# Altium footprint library MaryLab Projets.PcbLib: 43 footprints (part 1 of 3)
Each footprint in its own frame and in the unit in brackets; x right, y up, seen from the top. Pads: shape width x height; smd on the part's side, far side on the other; paste and mask are expansions set on the pad; w line width, h text height; cw(c..) or ccw(c..) is an arc to the next point about the centre after c.
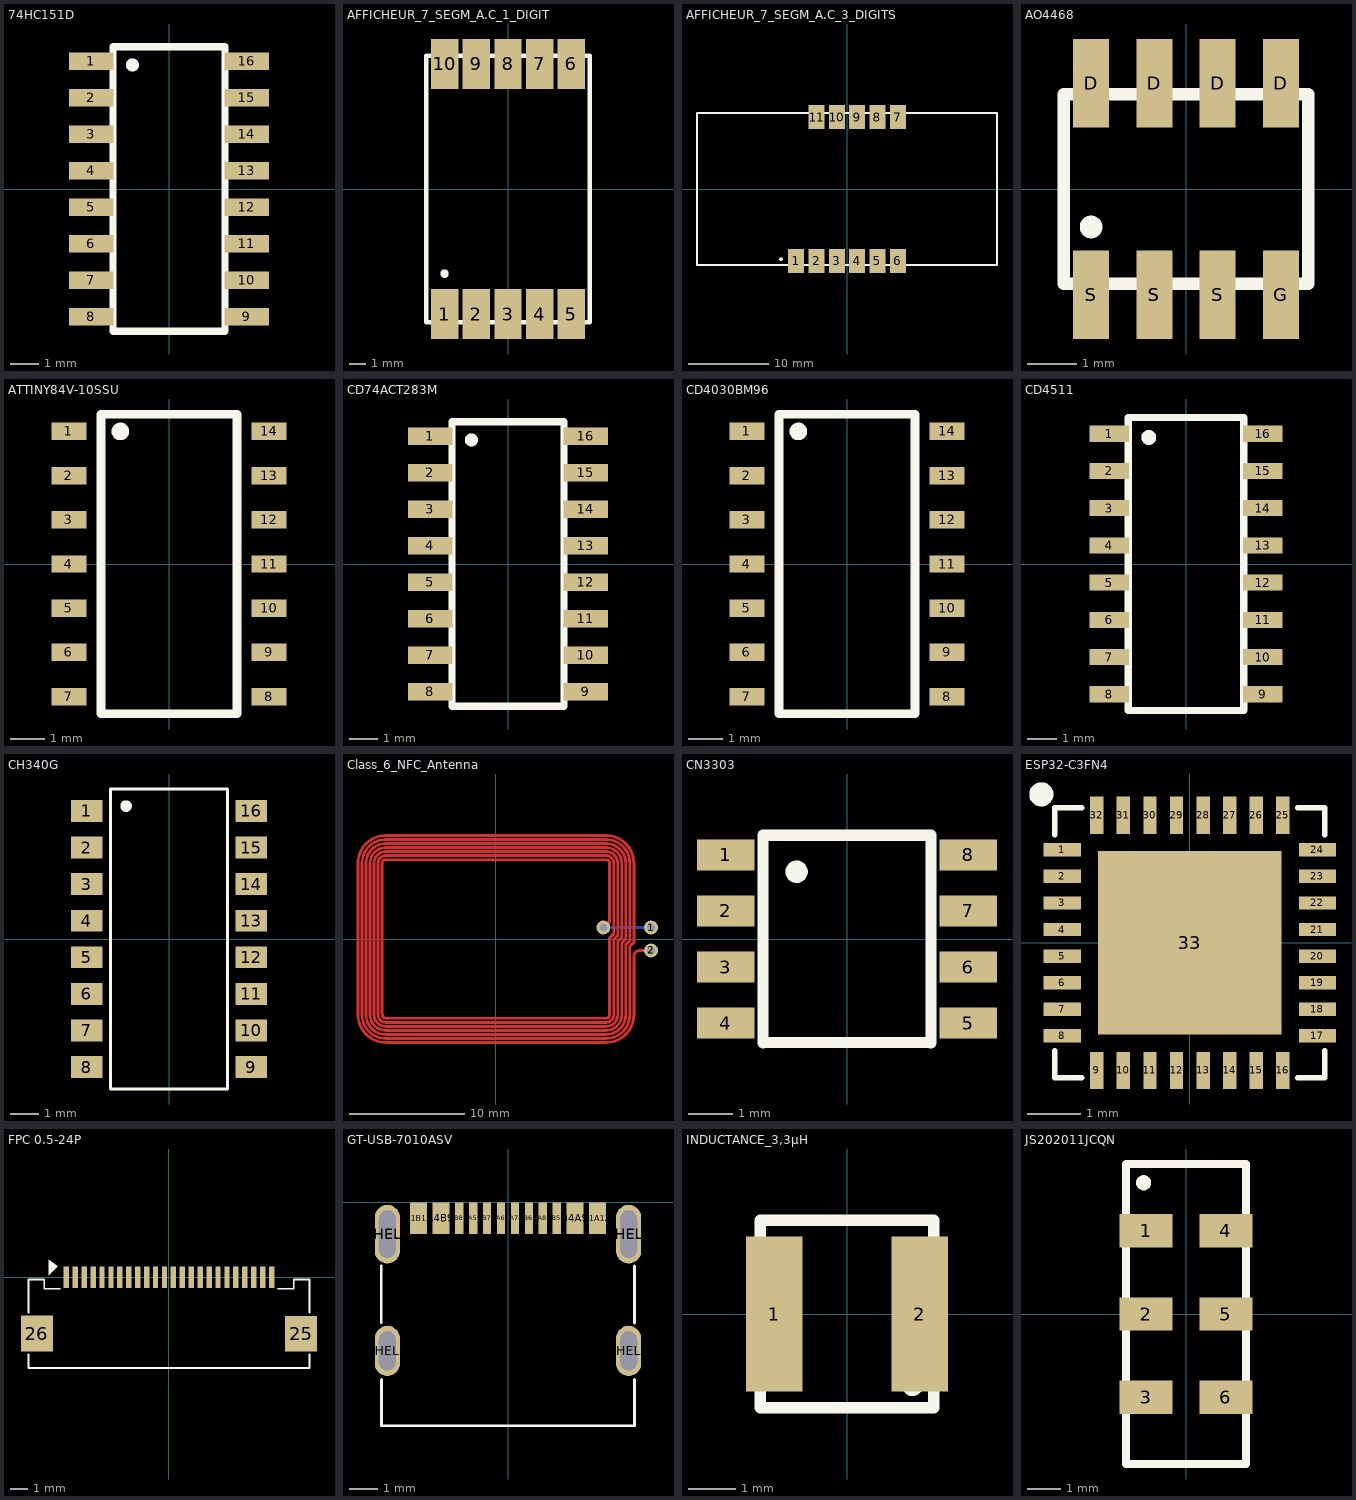
[diagram p0: the footprints below, top view; thin cyan lines are the x and y axes]

## 74HC151D [mm] "IC MULTIPLEXER 1 X 8:1"
pads (16):
  rect 1.55x0.6 smd: 1(-2.7,4.445) 2(-2.7,3.175) 3(-2.7,1.905) 4(-2.7,0.635) 5(-2.7,-0.635) 6(-2.7,-1.905) 7(-2.7,-3.175) 8(-2.7,-4.445) 9(2.7,-4.445) 10(2.7,-3.175) 11(2.7,-1.905) 12(2.7,-0.635) 13(2.7,0.635) 14(2.7,1.905) 15(2.7,3.175) 16(2.7,4.445)
Top Overlay:
  circle w0.254: c-1.27,4.318 r0.1
  lines w0.254: -1.95,-4.95 -1.95,4.95 1.95,4.95 1.95,-4.95 -1.95,-4.95
3D body "SO16 Narrow 3.9mm.step": height 1.35, standoff 0, extent -2.99,-4.95 2.99,4.95

## AFFICHEUR_7_SEGM_A.C_1_DIGIT [mm] "VDMR10A1 - DISPLAY 7SEG 0.39\" SGL RED 10SMD"
pads (10):
  rect 1.65x3 smd: 1(-3.8,-7.5) 2(-1.9,-7.5) 3(0,-7.5) 4(1.9,-7.5) 5(3.8,-7.5) 6(3.8,7.5) 7(1.9,7.5) 8(0,7.5) 9(-1.9,7.5) 10(-3.8,7.5)
Top Overlay:
  circle w0.254: c-3.81,-5.08 r0.127
  lines w0.254: -4.9,-8 -4.9,8 4.9,8 4.9,-8 -4.9,-8
3D body "SON_R10A1_VIS.step": height 2.11, standoff 0, extent -4.902,-8.128 4.902,7.874

## AFFICHEUR_7_SEGM_A.C_3_DIGITS [mm] "0.56” Three Digit SMD Display Common Anode - QBTS560R"
pads (11):
  rect 2x3 smd: 1(-6.35,-9) 2(-3.81,-9) 3(-1.27,-9) 4(1.27,-9) 5(3.81,-9) 6(6.35,-9) 7(6.35,9) 8(3.81,9) 9(1.27,9) 10(-1.27,9) 11(-3.81,9)
Top Overlay:
  circle w0.254: c-8.255,-8.763 r0.1
  lines w0.254: -18.75,-9.5 18.75,-9.5 18.75,9.5 -18.75,9.5 -18.75,-9.5

## AO4468 [mm] "30V N-Channel MOSFET"
pads (8):
  rect 0.72x1.78 smd: D(-1.905,2.12) D(-0.635,2.12) D(0.635,2.12) D(1.905,2.12) G(1.905,-2.12) S(-1.905,-2.12) S(-0.635,-2.12) S(0.635,-2.12)
Top Overlay:
  circle w0.254: c-1.905,-0.762 r0.1
  lines w0.254: -2.45,-1.9 2.45,-1.9 2.45,1.9 -2.45,1.9 -2.45,-1.9

## ATTINY84V-10SSU [mm] "AVR series Microcontrôleurs IC 8 bits 10MHz 8Ko (4K x 16) FLASH 14-SOIC"
pads (14):
  rect 1x0.5 smd: 1(-2.875,3.81) 2(-2.875,2.54) 3(-2.875,1.27) 4(-2.875,0) 5(-2.875,-1.27) 6(-2.875,-2.54) 7(-2.875,-3.81) 8(2.875,-3.81) 9(2.875,-2.54) 10(2.875,-1.27) 11(2.875,0) 12(2.875,1.27) 13(2.875,2.54) 14(2.875,3.81)
Top Overlay:
  circle w0.254: c-1.397,3.81 r0.127
  lines w0.254: -1.95,-4.305 1.95,-4.305 1.95,4.305 -1.95,4.305 -1.95,-4.305
3D body "SOIC-14_3.9x8.7mm_P1.27mm.step": height 1.75, standoff 0, extent -3,-4.35 3,4.35

## CD74ACT283M [mm] "4-Bit Binary Fill Adder With Fast Carry"
pads (16):
  rect 1.55x0.6 smd: 1(-2.7,4.445) 2(-2.7,3.175) 3(-2.7,1.905) 4(-2.7,0.635) 5(-2.7,-0.635) 6(-2.7,-1.905) 7(-2.7,-3.175) 8(-2.7,-4.445) 9(2.7,-4.445) 10(2.7,-3.175) 11(2.7,-1.905) 12(2.7,-0.635) 13(2.7,0.635) 14(2.7,1.905) 15(2.7,3.175) 16(2.7,4.445)
Top Overlay:
  circle w0.254: c-1.27,4.318 r0.1
  lines w0.254: -1.95,-4.95 -1.95,4.95 1.95,4.95 1.95,-4.95 -1.95,-4.95
3D body "SO16 Narrow 3.9mm.step": height 1.35, standoff 0, extent -2.99,-4.95 2.99,4.95

## CD4030BM96 [mm] "IC GATE XOR 4CH 2-INP 14SOIC"
pads (14):
  rect 1x0.5 smd: 1(-2.875,3.81) 2(-2.875,2.54) 3(-2.875,1.27) 4(-2.875,0) 5(-2.875,-1.27) 6(-2.875,-2.54) 7(-2.875,-3.81) 8(2.875,-3.81) 9(2.875,-2.54) 10(2.875,-1.27) 11(2.875,0) 12(2.875,1.27) 13(2.875,2.54) 14(2.875,3.81)
Top Overlay:
  circle w0.254: c-1.397,3.81 r0.127
  lines w0.254: -1.95,-4.305 -1.95,4.305 1.95,4.305 1.95,-4.305 -1.95,-4.305
3D body "SOIC-14_3.9x8.7mm_P1.27mm.step": height 1.75, standoff 0, extent -3,-4.35 3,4.35

## CD4511 [mm] "CMOS BCD to 7 Segment Latch Decoder Drivers"
pads (16):
  rect 1.35x0.55 smd: 1(-2.625,4.445) 2(-2.625,3.175) 3(-2.625,1.905) 4(-2.625,0.635) 5(-2.625,-0.635) 6(-2.625,-1.905) 7(-2.625,-3.175) 8(-2.625,-4.445) 9(2.625,-4.445) 10(2.625,-3.175) 11(2.625,-1.905) 12(2.625,-0.635) 13(2.625,0.635) 14(2.625,1.905) 15(2.625,3.175) 16(2.625,4.445)
Top Overlay:
  circle w0.254: c-1.27,4.318 r0.127
  lines w0.254: -1.97,-5 -1.97,5 1.97,5 1.97,-5 -1.97,-5
3D body "SOP-16_4.4x10.4mm_P1.27mm.step": height 2.1, standoff 0, extent -3.2,-5.2 3.2,5.2

## CH340G [mm] "USB to serial chip CH340"
pads (16):
  rect 1.1x0.76 smd: 1(-2.85,4.445) 2(-2.85,3.175) 3(-2.85,1.905) 4(-2.85,0.635) 5(-2.85,-0.635) 6(-2.85,-1.905) 7(-2.85,-3.175) 8(-2.85,-4.445) 9(2.85,-4.445) 10(2.85,-3.175) 11(2.85,-1.905) 12(2.85,-0.635) 13(2.85,0.635) 14(2.85,1.905) 15(2.85,3.175) 16(2.85,4.445)
Top Overlay:
  circle w0.2: c-1.491,4.615 r0.1
  lines w0.1: -2.032,-5.207 -2.032,5.207 2.032,5.207 2.032,-5.207 -2.032,-5.207
3D body "SOP-16_4.4x10.4mm_P1.27mm.step": height 2.1, standoff 0, extent -3.2,-5.2 3.2,5.2

## Class_6_NFC_Antenna [mm] "Class 6 NFC Antenna from NXP"
pads (3):
  round 1.208 hole 0.7: 1(13.5,1) 2(13.5,-1) ""(9.35,1)
Top Layer:
  lines w0.25: -10.95,-6.55 -10.95,-6.25 ; -9.55,7.95 -9.25,7.95 ; -9.55,8.3 -9.2,8.3 ; 9.35,1 9.9,1.55 9.9,6.6 ccw(c9.6,6.6) 9.6,6.9 -9.6,6.9 ccw(c-9.6,6.6) -9.9,6.6 -9.9,-6.55 ccw(c-9.55,-6.55) -9.55,-6.9 9.6,-6.9 ccw(c9.6,-6.6) 9.9,-6.6 9.9,-6.45 ; 9.55,7.95 9.5,7.95 ; 9.55,8.3 9.3,8.3 ; 9.9,-6.55 9.9,-6.45 ; 10.25,-6.55 10.25,-6.4 ; 10.25,6.55 10.25,6.5 ; 13.5,-1 12.5,-1 ccw(c12.5,-1.5) 12,-1.5 12,-6.6 cw(c9.6,-6.6) 9.6,-9 -9.6,-9 cw(c-9.6,-6.6) -12,-6.6 -12,6.6 cw(c-9.6,6.6) -9.6,9 9.6,9 cw(c9.6,6.6) 12,6.6 12,-0.3 11.65,-0.65 11.65,-6.6 cw(c9.6,-6.6) 9.6,-8.65 -9.6,-8.65 cw(c-9.6,-6.6) -11.65,-6.6 -11.65,6.6 cw(c-9.6,6.6) -9.6,8.65 9.6,8.65 cw(c9.6,6.6) 11.65,6.6 11.65,-0.15 11.3,-0.5 11.3,-6.6 cw(c9.6,-6.6) 9.6,-8.3 -9.6,-8.3 cw(c-9.6,-6.6) -11.3,-6.6 -11.3,6.6 cw(c-9.6,6.6) -9.6,8.3 -9.2,8.3 ; -10.95,-6.25 -10.95,6.6 cw(c-9.6,6.6) -9.6,7.95 -9.25,7.95 ; -10.95,-6.25 -10.95,-6.6 ccw(c-9.6,-6.6) -9.6,-7.95 9.6,-7.95 ccw(c9.6,-6.6) 10.95,-6.6 10.95,-0.35 11.3,0 11.3,6.6 ccw(c9.6,6.6) 9.6,8.3 9.3,8.3 ; -9.25,7.95 9.5,7.95 ; -9.2,8.3 9.3,8.3 ; 9.5,7.95 9.6,7.95 cw(c9.6,6.6) 10.95,6.6 10.95,0.15 10.6,-0.2 10.6,-6.6 cw(c9.6,-6.6) 9.6,-7.6 -9.6,-7.6 cw(c-9.6,-6.6) -10.6,-6.6 -10.6,6.6 cw(c-9.6,6.6) -9.6,7.6 9.6,7.6 cw(c9.6,6.6) 10.6,6.6 10.6,0.3 10.25,-0.05 10.25,-6.4 ; 9.9,-6.45 9.9,0.1 10.25,0.45 10.25,6.5 ; 10.25,-6.4 10.25,-6.6 cw(c9.6,-6.6) 9.6,-7.25 -9.6,-7.25 cw(c-9.6,-6.6) -10.25,-6.6 -10.25,6.6 cw(c-9.6,6.6) -9.6,7.25 9.6,7.25 cw(c9.6,6.6) 10.25,6.6 10.25,6.5
Bottom Layer:
  lines w0.25: 9.35,1 13.5,1

## CN3303 [mm]
pads (8):
  rect 1.3x0.7 smd: 1(-2.75,1.905) 2(-2.75,0.635) 3(-2.75,-0.635) 4(-2.75,-1.905) 5(2.75,-1.905) 6(2.75,-0.635) 7(2.75,0.635) 8(2.75,1.905)
Top Overlay:
  circle w0.254: c-1.143,1.524 r0.127
  lines w0.254: 1.895,-2.35 -1.905,-2.349 -1.905,2.35 1.895,2.35 ; 1.905,-2.35 1.905,2.35
3D body "sop8.STEP": height 1.55, standoff -0.01, extent -2.916,-2.411 3.064,2.489

## ESP32-C3FN4 [mm] "QFN-32 (5x5) - Ultra­Low­Power SoC with RISC­V Single­Core CPU  Supporting IEEE 802.11b/g/n (2.4 GHz Wi­Fi) and Bluetooth® 5 (LE)"
pads (33):
  rect 0.7x0.25 smd: 1(-2.4,1.75) 2(-2.4,1.25) 3(-2.4,0.75) 4(-2.4,0.25) 5(-2.4,-0.25) 6(-2.4,-0.75) 7(-2.4,-1.25) 8(-2.4,-1.75) 17(2.4,-1.75) 18(2.4,-1.25) 19(2.4,-0.75) 20(2.4,-0.25) 21(2.4,0.25) 22(2.4,0.75) 23(2.4,1.25) 24(2.4,1.75)
  rect 0.25x0.7 smd: 9(-1.75,-2.4) 10(-1.25,-2.4) 11(-0.75,-2.4) 12(-0.25,-2.4) 13(0.25,-2.4) 14(0.75,-2.4) 15(1.25,-2.4) 16(1.75,-2.4) 25(1.75,2.4) 26(1.25,2.4) 27(0.75,2.4) 28(0.25,2.4) 29(-0.25,2.4) 30(-0.75,2.4) 31(-1.25,2.4) 32(-1.75,2.4)
  rect 3.45x3.45 smd: 33(0,0)
Top Overlay:
  circle w0.254: c-2.794,2.794 r0.1
  lines w0.1: -2.54,-2.032 -2.54,-2.54 -2.032,-2.54 ; -2.54,2.032 -2.54,2.54 -2.032,2.54 ; 2.032,-2.54 2.54,-2.54 2.54,-2.032 ; 2.032,2.54 2.54,2.54 2.54,2.032
3D body "QFN32-5x5.STEP": height 0.77, standoff 0, extent -2.51,-2.51 2.51,2.51

## FPC 0.5-24P [mm] "Clamshell -25?~+85? 24P Contact,Top Surface Mount 0.5mm SMD,P=0.5mm FFC/FPC Connectors ROHS"
pads (26):
  rect 0.3x1.2 smd: 1(-5.75,0) 2(-5.25,0) 3(-4.75,0) 4(-4.25,0) 5(-3.75,0) 6(-3.25,0) 7(-2.75,0) 8(-2.25,0) 9(-1.75,0) 10(-1.25,0) 11(-0.75,0) 12(-0.25,0) 13(0.25,0) 14(0.75,0) 15(1.25,0) 16(1.75,0) 17(2.25,0) 18(2.75,0) 19(3.25,0) 20(3.75,0) 21(4.25,0) 22(4.75,0) 23(5.25,0) 24(5.75,0)
  rect 1.8x2 smd: 25(7.405,-3.152) 26(-7.4,-3.15)
Top Overlay:
  region: -6.731,0.974 -6.731,0.127 -6.223,0.635
  lines w0.1: -7.874,-4.318 -7.874,-5.08 7.874,-5.08 7.874,-4.318 ; -7.874,-1.968 -7.874,-0.127 -6.985,-0.127 -6.985,-0.635 -6.096,-0.635 ; 6.096,-0.635 6.985,-0.635 6.985,-0.127 7.874,-0.127 7.874,-1.968
3D body "100519222410elf.stp": height 1.27, standoff -0.03, extent -7.25,-3.937 7.25,-0.187

## GT-USB-7010ASV [mm] "USB 2.0 3A 1 Surface Mount 16P Female -40?~+85? Gold High Conductivity Copper Type-C SMD USB Connectors ROHS"
pads (16):
  rect 0.6x1.14 smd: A1B12(-3.2,-0.57) A4B9(-2.4,-0.57) B1A12(3.2,-0.57) B4A9(2.4,-0.57)
  rect 0.3x1.14 smd: A5(-1.25,-0.57) A6(-0.25,-0.57) A7(0.25,-0.57) A8(1.25,-0.57) B5(1.75,-0.57) B6(0.75,-0.57) B7(-0.75,-0.57) B8(-1.75,-0.57)
  oval 0.9x1.8 hole 0.6 slot 1.4 at 90 deg: SHELL(-4.32,-5.32) SHELL(4.32,-5.32)
  oval 0.9x2.1 hole 0.6 slot 1.7 at 90 deg: SHELL(-4.32,-1.14) SHELL(4.32,-1.14)
Top Overlay:
  lines w0.1: -4.535,-4.316 -4.535,-2.284 ; -4.531,-6.35 -4.531,-8.001 4.531,-8.001 4.531,-6.35 ; 4.53,-4.318 4.53,-2.286
3D body "HRO_TYPE-C-31-M-12.step": height 3.16, standoff -1.04, extent -4.475,-8.027 4.475,-0.127

## INDUCTANCE_3,3µH [mm]
pads (2):
  rect 1.2x3.3 smd: 1(-1.55,0) 2(1.55,0)
Top Overlay:
  circle w0.254: c1.397,-1.524 r0.1
  lines w0.254: -1.85,-2 1.85,-2 1.85,2 -1.85,2 -1.85,-2
3D body "74405042010_Download_STP_WE-LQSH-4020_rev1.stp": height 1.97, standoff -0.02, extent -2,-2.02 2,2

## JS202011JCQN [mm] "SWITCH SLIDE DPDT 300MA 6V"
pads (6):
  rect 1.6x1 smd: 1(-1.2,2.5) 2(-1.2,0) 3(-1.2,-2.5) 4(1.2,2.5) 5(1.2,0) 6(1.2,-2.5)
Top Overlay:
  circle w0.254: c-1.27,3.937 r0.1
  lines w0.254: -1.8,-4.5 -1.8,4.5 1.8,4.5 1.8,-4.5 -1.8,-4.5
3D body "JS202011JCQN.stp": height 5.57, standoff -0.03, extent -1.778,-4.5 1.822,4.5